# Altium schematic symbol library 1718570003.SchLib: 1 symbol
Pins are listed as number, name and electrical type; pins without a type are passive.

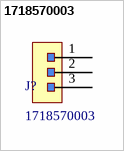
[diagram p0: symbol 1718570003]

## 1718570003
designator J?
CONN HEADER R/A 3POS 2.54MM; No. of Positions: 3; No. of Rows: 1; Current Rating: 4A; Supplier 1: Digi-Key; Supplier Part Number 1: WM10158-ND; MFR: *; PN: *; ComponentLink1Description: Datasheet; ComponentLink1URL: https://media.digikey.com/pdf/Data%20Sheets/Molex%20PDFs/171856,57_Brief.pdf
footprint 1718570003
pins: 1, 2, 3